# Altium footprint library PT_2PIN_3.5mm.PcbLib: 1 footprints
Each footprint in its own frame and in the unit in brackets; x right, y up, seen from the top. Pads: shape width x height; smd on the part's side, far side on the other; paste and mask are expansions set on the pad; w line width, h text height; cw(c..) or ccw(c..) is an arc to the next point about the centre after c.
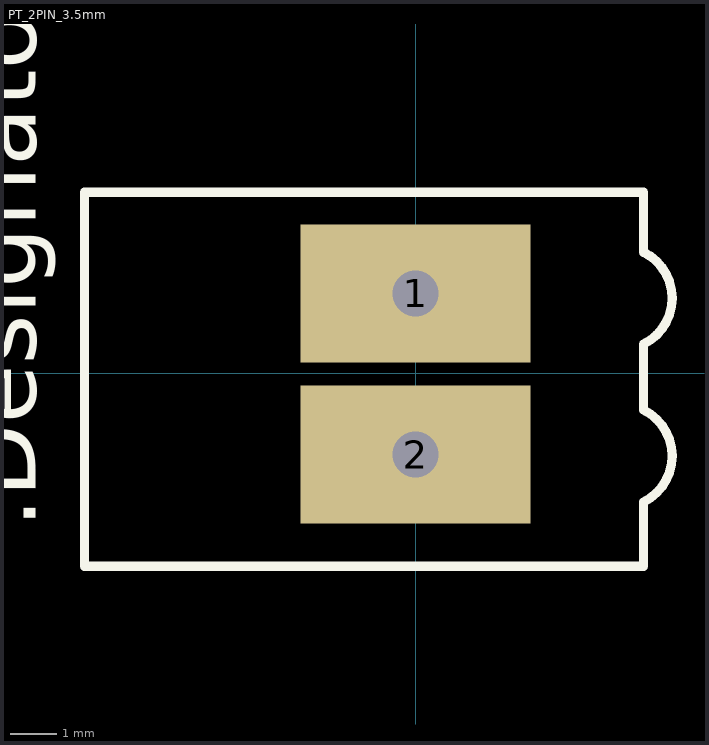
[diagram p0: the footprint, top view; thin cyan lines are the x and y axes]

## PT_2PIN_3.5mm [mm]
pads (2):
  rect 5x3 hole 1: 1(0,1.737) 2(0,-1.763)
Top Overlay:
  lines w0.2: 4.953,-0.794 cw(c4.459,-1.794) 4.953,-2.794 4.953,-4.191 -7.2,-4.191 -7.2,3.937 4.826,3.937 4.953,3.937 4.953,3.048 4.953,2.635 cw(c4.459,1.635) 4.953,0.635 4.953,-0.762
  text "'.Designator'" at -8.255,-3.937 h1.52